# Altium schematic symbol library MIT_Schlib.SchLib: 44 symbols
Pins are listed as number, name and electrical type; pins without a type are passive.

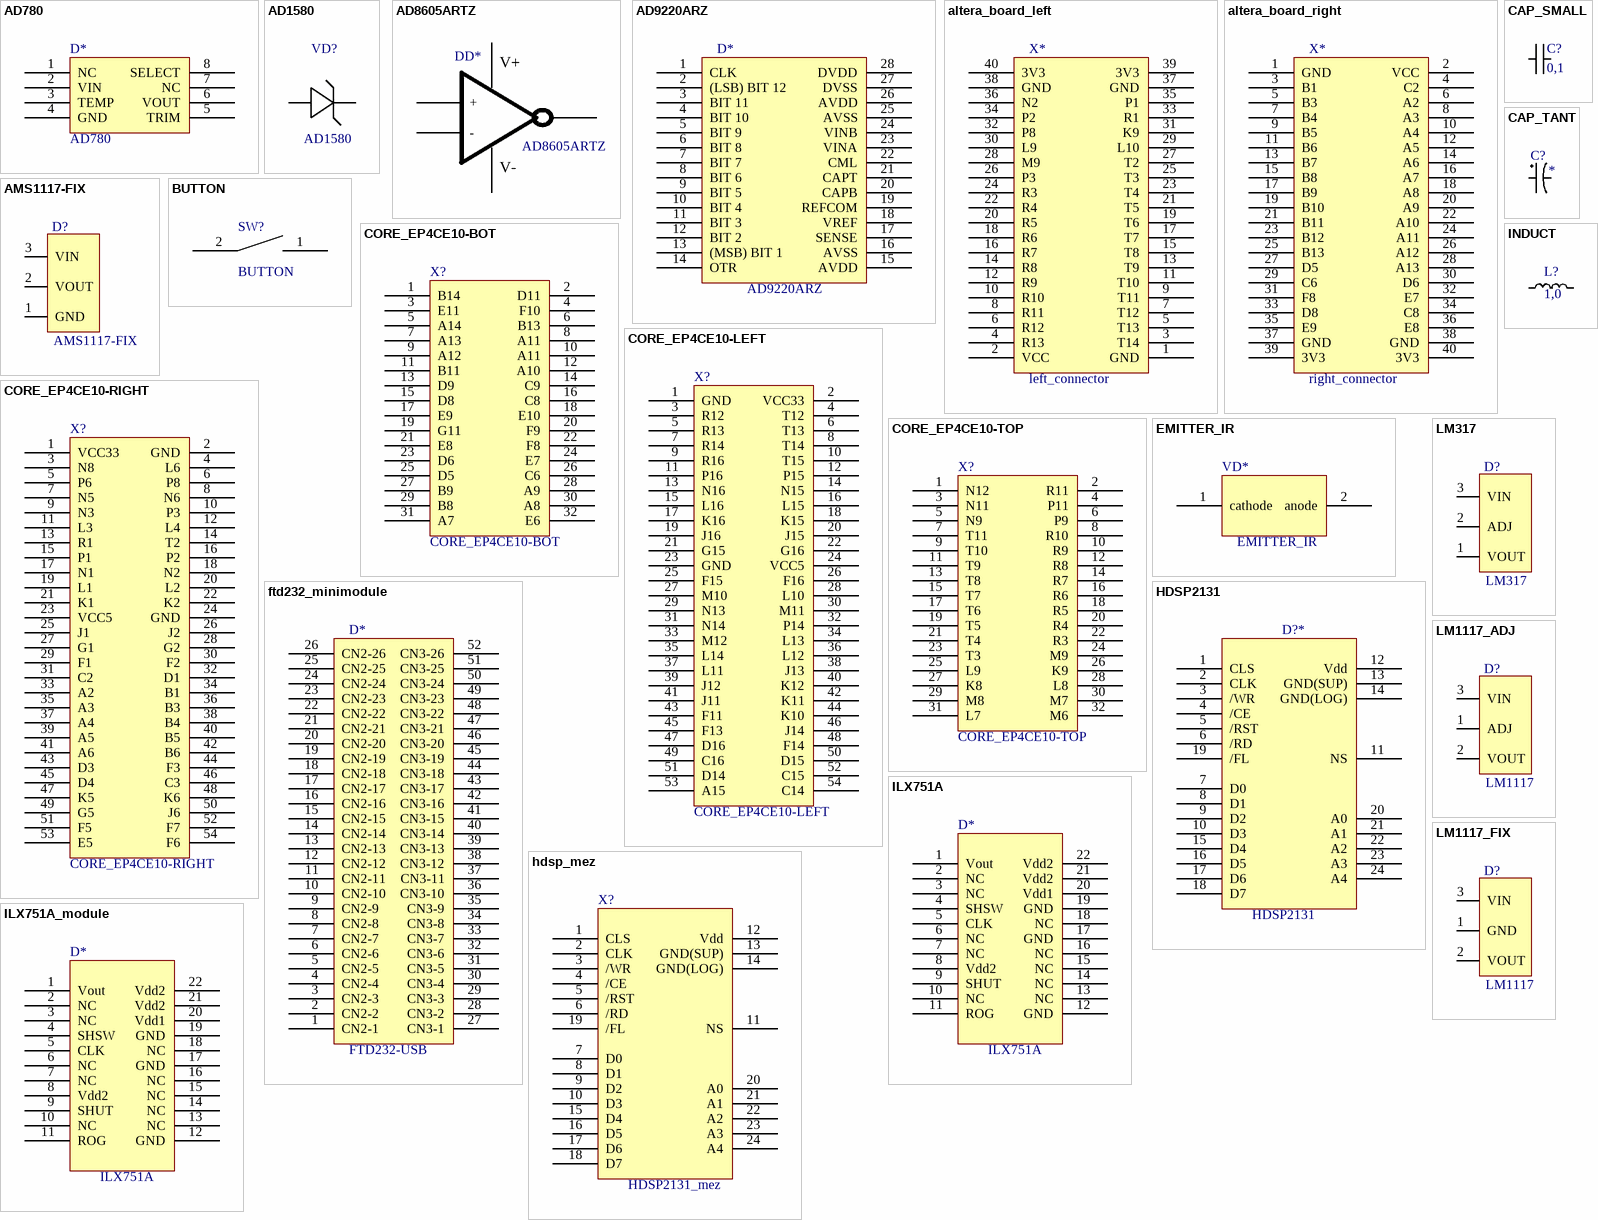
[diagram p0: symbols AD780 to LM1117_FIX]

## AD780
designator D*
footprint SOP8
pins: 1 NC, 2 VIN, 3 TEMP, 4 GND, 5 TRIM, 6 VOUT, 7 NC, 8 SELECT

## AD1580
designator VD?
footprint SOT-23
pins: 1 V+, 2 V-

## AD8605ARTZ
designator DD*
footprint SOT-23-5
pins: 1 OUT, 2 V-, 3 +, 4 -, 5 V+

## AD9220ARZ
designator D*
footprint SOP28
pins: 1 CLK, 2 (LSB) BIT 12 , 3 BIT 11, 4 BIT 10, 5 BIT 9, 6 BIT 8, 7 BIT 7, 8 BIT 6, 9 BIT 5, 10 BIT 4, 11 BIT 3, 12 BIT 2, 13 (MSB) BIT 1, 14 OTR, 15 AVDD, 16 AVSS, 17 SENSE, 18 VREF, 19 REFCOM, 20 CAPB, 21 CAPT, 22 CML, 23 VINA, 24 VINB, 25 AVSS, 26 AVDD, 27 DVSS, 28 DVDD

## altera_board_left
designator X*, comment left_connector
footprint altera_board_left
pins: 1 GND, 2 VCC, 3 T14, 4 R13, 5 T13, 6 R12, 7 T12, 8 R11, 9 T11, 10 R10, 11 T10, 12 R9, 13 T9, 14 R8, 15 T8, 16 R7, 17 T7, 18 R6, 19 T6, 20 R5, 21 T5, 22 R4, 23 T4, 24 R3, 25 T3, 26 P3, 27 T2, 28 M9, 29 L10, 30 L9, 31 K9, 32 P8, 33 R1, 34 P2, 35 P1, 36 N2, 37 GND, 38 GND, 39 3V3, 40 3V3

## altera_board_right
designator X*, comment right_connector
footprint altera_board_right
pins: 1 GND, 2 VCC, 3 B1, 4 C2, 5 B3, 6 A2, 7 B4, 8 A3, 9 B5, 10 A4, 11 B6, 12 A5, 13 B7, 14 A6, 15 B8, 16 A7, 17 B9, 18 A8, 19 B10, 20 A9, 21 B11, 22 A10, 23 B12, 24 A11, 25 B13, 26 A12, 27 D5, 28 A13, 29 C6, 30 D6, 31 F8, 32 E7, 33 D8, 34 C8, 35 E9, 36 E8, 37 GND, 38 GND, 39 3V3, 40 3V3

## AMS1117-FIX
designator D?
footprint SOT-223
pins: 1 GND, 2 VOUT, 3 VIN

## BUTTON
designator SW?
footprint BUTTON
pins: 1, 2

## CAP_SMALL
designator C?, comment 0,1
0805
footprint 0805
pins: 1, 2

## CAP_TANT
designator C?
SMD
footprint TYPE_C
pins: 1, 2

## CORE_EP4CE10-BOT
designator X?
footprint CORE_EP4CE10-BOT
pins: 1 B14, 2 D11, 3 E11, 4 F10, 5 A14, 6 B13, 7 A13, 8 A11, 9 A12, 10 A11, 11 B11, 12 A10, 13 D9, 14 C9, 15 D8, 16 C8, 17 E9, 18 E10, 19 G11, 20 F9, 21 E8, 22 F8, 23 D6, 24 E7, 25 D5, 26 C6, 27 B9, 28 A9, 29 B8, 30 A8, 31 A7, 32 E6

## CORE_EP4CE10-LEFT
designator X?
footprint CORE_EP4CE10-LEFT
pins: 1 GND, 2 VCC33, 3 R12, 4 T12, 5 R13, 6 T13, 7 R14, 8 T14, 9 R16, 10 T15, 11 P16, 12 P15, 13 N16, 14 N15, 15 L16, 16 L15, 17 K16, 18 K15, 19 J16, 20 J15, 21 G15, 22 G16, 23 GND, 24 VCC5, 25 F15, 26 F16, 27 M10, 28 L10, 29 N13, 30 M11, 31 N14, 32 P14, 33 M12, 34 L13, 35 L14, 36 L12, 37 L11, 38 J13, 39 J12, 40 K12, 41 J11, 42 K11, 43 F11, 44 K10, 45 F13, 46 J14, 47 D16, 48 F14, 49 C16, 50 D15, 51 D14, 52 C15, 53 A15, 54 C14

## CORE_EP4CE10-RIGHT
designator X?
footprint CORE_EP4CE10-RIGHT
pins: 1 VCC33, 2 GND, 3 N8, 4 L6, 5 P6, 6 P8, 7 N5, 8 N6, 9 N3, 10 P3, 11 L3, 12 L4, 13 R1, 14 T2, 15 P1, 16 P2, 17 N1, 18 N2, 19 L1, 20 L2, 21 K1, 22 K2, 23 VCC5, 24 GND, 25 J1, 26 J2, 27 G1, 28 G2, 29 F1, 30 F2, 31 C2, 32 D1, 33 A2, 34 B1, 35 A3, 36 B3, 37 A4, 38 B4, 39 A5, 40 B5, 41 A6, 42 B6, 43 D3, 44 F3, 45 D4, 46 C3, 47 K5, 48 K6, 49 G5, 50 J6, 51 F5, 52 F7, 53 E5, 54 F6

## CORE_EP4CE10-TOP
designator X?
footprint CORE_EP4CE10-TOP
pins: 1 N12, 2 R11, 3 N11, 4 P11, 5 N9, 6 P9, 7 T11, 8 R10, 9 T10, 10 R9, 11 T9, 12 R8, 13 T8, 14 R7, 15 T7, 16 R6, 17 T6, 18 R5, 19 T5, 20 R4, 21 T4, 22 R3, 23 T3, 24 M9, 25 L9, 26 K9, 27 K8, 28 L8, 29 M8, 30 M7, 31 L7, 32 M6

## EMITTER_IR
designator VD*
footprint EMITTER_IR
pins: 1 cathode, 2 anode

## ftd232_minimodule
designator D*, comment FTD232-USB
footprint ftd232_minimodule
pins: 1 CN2-1, 2 CN2-2, 3 CN2-3, 4 CN2-4, 5 CN2-5, 6 CN2-6, 7 CN2-7, 8 CN2-8, 9 CN2-9, 10 CN2-10, 11 CN2-11, 12 CN2-12, 13 CN2-13, 14 CN2-14, 15 CN2-15, 16 CN2-16, 17 CN2-17, 18 CN2-18, 19 CN2-19, 20 CN2-20, 21 CN2-21, 22 CN2-22, 23 CN2-23, 24 CN2-24, 25 CN2-25, 26 CN2-26, 27 CN3-1, 28 CN3-2, 29 CN3-3, 30 CN3-4, 31 CN3-5, 32 CN3-6, 33 CN3-7, 34 CN3-8, 35 CN3-9, 36 CN3-10, 37 CN3-11, 38 CN3-12, 39 CN3-13, 40 CN3-14, 41 CN3-15, 42 CN3-16, 43 CN3-17, 44 CN3-18, 45 CN3-19, 46 CN3-20, 47 CN3-21, 48 CN3-22, 49 CN3-23, 50 CN3-24, 51 CN3-25, 52 CN3-26

## HDSP2131
designator D?*
footprint HDSP2131
pins: 1 CLS, 2 CLK, 3 /WR, 4 /CE, 5 /RST, 6 /RD, 7 D0, 8 D1, 9 D2, 10 D3, 11 NS, 12 Vdd, 13 GND(SUP), 14 GND(LOG), 15 D4, 16 D5, 17 D6, 18 D7, 19 /FL, 20 A0, 21 A1, 22 A2, 23 A3, 24 A4

## hdsp_mez
designator X?, comment HDSP2131_mez
footprint hdsp2131_mez
pins: 1 CLS, 2 CLK, 3 /WR, 4 /CE, 5 /RST, 6 /RD, 7 D0, 8 D1, 9 D2, 10 D3, 11 NS, 12 Vdd, 13 GND(SUP), 14 GND(LOG), 15 D4, 16 D5, 17 D6, 18 D7, 19 /FL, 20 A0, 21 A1, 22 A2, 23 A3, 24 A4

## ILX751A
designator D*
footprint ILX751A
pins: 1 Vout, 2 NC, 3 NC, 4 SHSW, 5 CLK, 6 NC, 7 NC, 8 Vdd2, 9 SHUT, 10 NC, 11 ROG, 12 GND, 13 NC, 14 NC, 15 NC, 16 NC, 17 GND, 18 NC, 19 GND, 20 Vdd1, 21 Vdd2, 22 Vdd2

## ILX751A_module
designator D*, comment ILX751A
footprint ILX751A - Module
pins: 1 Vout, 2 NC, 3 NC, 4 SHSW, 5 CLK, 6 NC, 7 NC, 8 Vdd2, 9 SHUT, 10 NC, 11 ROG, 12 GND, 13 NC, 14 NC, 15 NC, 16 NC, 17 GND, 18 NC, 19 GND, 20 Vdd1, 21 Vdd2, 22 Vdd2

## INDUCT
designator L?, comment 1,0
0805
footprint 0805
pins: 1, 2

## LM317
designator D?
footprint D2PACK
pins: 1 VOUT, 2 ADJ, 3 VIN

## LM1117_ADJ
designator D?, comment LM1117
footprint TO-252
pins: 1 ADJ, 2 VOUT, 3 VIN

## LM1117_FIX
designator D?, comment LM1117
LM1117-FIX
footprint TO-252
pins: 1 GND, 2 VOUT, 3 VIN

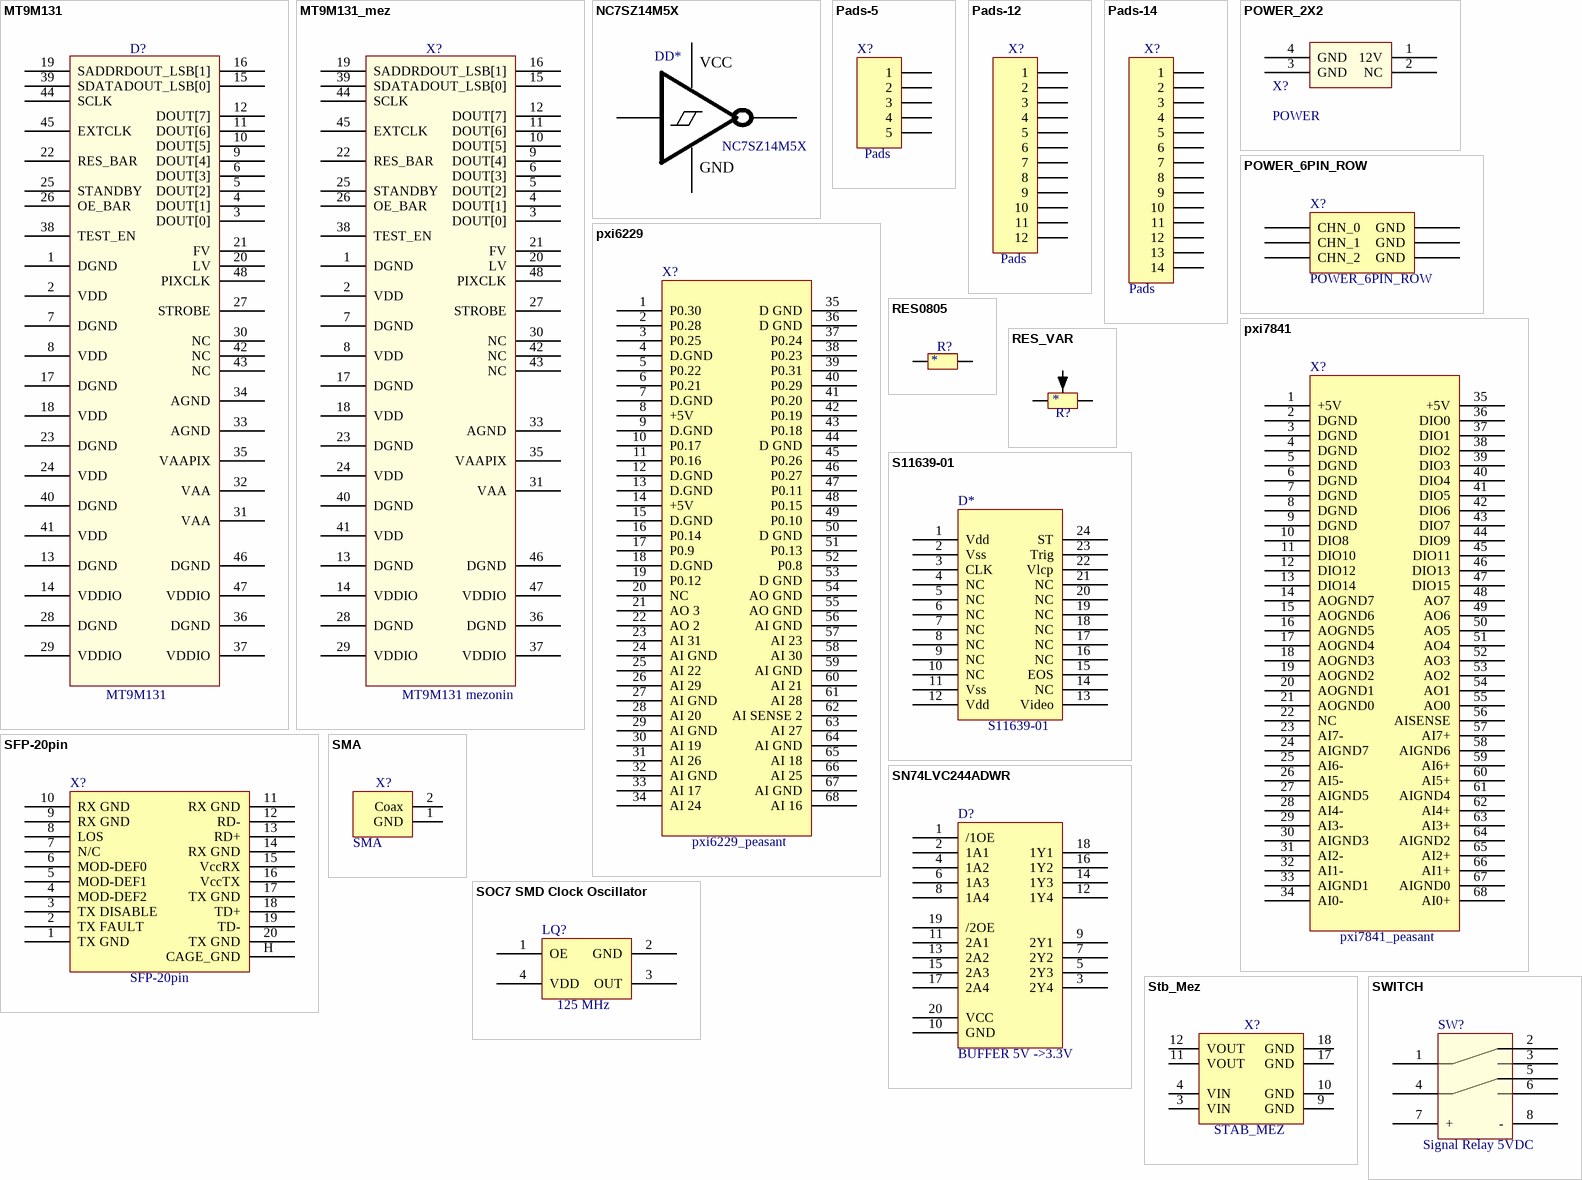
[diagram p1: symbols MT9M131 to SWITCH]

## MT9M131
designator D?
Matrix
footprint LCC48
pins: 1 DGND, 2 VDD, 3 DOUT[0], 4 DOUT[1], 5 DOUT[2], 6 DOUT[3], 7 DGND, 8 VDD, 9 DOUT[4], 10 DOUT[5], 11 DOUT[6], 12 DOUT[7], 13 DGND, 14 VDDIO, 15 DOUT_LSB[0], 16 DOUT_LSB[1], 17 DGND, 18 VDD, 19 SADDR, 20 LV, 21 FV, 22 RES_BAR, 23 DGND, 24 VDD, 25 STANDBY, 26 OE_BAR, 27 STROBE, 28 DGND, 29 VDDIO, 30 NC, 31 VAA, 32 VAA, 33 AGND, 34 AGND, 35 VAAPIX, 36 DGND, 37 VDDIO, 38 TEST_EN, 39 SDATA, 40 DGND, 41 VDD, 42 NC, 43 NC, 44 SCLK, 45 EXTCLK, 46 DGND, 47 VDDIO, 48 PIXCLK

## MT9M131_mez
designator X?, comment MT9M131 mezonin
Matrix
footprint MT9M131_mez
pins: 1 DGND, 2 VDD, 3 DOUT[0], 4 DOUT[1], 5 DOUT[2], 6 DOUT[3], 7 DGND, 8 VDD, 9 DOUT[4], 10 DOUT[5], 11 DOUT[6], 12 DOUT[7], 13 DGND, 14 VDDIO, 15 DOUT_LSB[0], 16 DOUT_LSB[1], 17 DGND, 18 VDD, 19 SADDR, 20 LV, 21 FV, 22 RES_BAR, 23 DGND, 24 VDD, 25 STANDBY, 26 OE_BAR, 27 STROBE, 28 DGND, 29 VDDIO, 30 NC, 31 VAA, 33 AGND, 35 VAAPIX, 36 DGND, 37 VDDIO, 38 TEST_EN, 39 SDATA, 40 DGND, 41 VDD, 42 NC, 43 NC, 44 SCLK, 45 EXTCLK, 46 DGND, 47 VDDIO, 48 PIXCLK

## NC7SZ14M5X
designator DD*
footprint SOT-23-5
pins: 2 A_IN, 3 GND, 4 Y_OUT, 5 VCC

## Pads-5
designator X?, comment Pads
footprint Pads-5
pins: 1, 2, 3, 4, 5

## Pads-12
designator X?, comment Pads
footprint Pads-12
pins: 1, 2, 3, 4, 5, 6, 7, 8, 9, 10, 11, 12

## Pads-14
designator X?, comment Pads
footprint Pads-14
pins: 1, 2, 3, 4, 5, 6, 7, 8, 9, 10, 11, 12, 13, 14

## POWER_2X2
designator X?, comment POWER
footprint POWER-2X2 (POWER)
pins: 1 12V, 2  NC, 3 GND, 4 GND

## POWER_6PIN_ROW
designator X?
footprint POWER_6PIN_ROW
pins: 1 CHN_0, 2 GND, 3 CHN_1, 4 GND, 5 GND, 6 CHN_2

## pxi6229
designator X?, comment pxi6229_peasant
footprint FPGA_Peasant_connector
pins: 1 P0.30, 2 P0.28, 3 P0.25, 4 D.GND, 5 P0.22, 6 P0.21, 7 D.GND, 8 +5V, 9 D.GND, 10 P0.17, 11 P0.16, 12 D.GND, 13 D.GND, 14 +5V, 15 D.GND, 16 P0.14, 17 P0.9, 18 D.GND, 19 P0.12, 20 NC, 21 AO 3, 22 AO 2, 23 AI 31, 24 AI GND, 25 AI 22, 26 AI 29, 27 AI GND, 28 AI 20, 29 AI GND, 30 AI 19, 31 AI 26, 32 AI GND, 33 AI 17, 34 AI 24, 35 D GND, 36 D GND, 37 P0.24, 38 P0.23, 39 P0.31, 40 P0.29, 41 P0.20, 42 P0.19, 43 P0.18, 44 D GND, 45 P0.26, 46 P0.27, 47 P0.11, 48 P0.15, 49 P0.10, 50 D GND, 51 P0.13, 52 P0.8, 53 D GND, 54 AO GND, 55 AO GND, 56 AI GND, 57 AI 23, 58 AI 30, 59 AI GND, 60 AI 21, 61 AI 28, 62 AI SENSE 2, 63 AI 27, 64 AI GND, 65 AI 18, 66 AI 25, 67 AI GND, 68 AI 16

## pxi7841
designator X?, comment pxi7841_peasant
footprint FPGA_Peasant_connector
pins: 1 +5V, 2 DGND, 3 DGND, 4 DGND, 5 DGND, 6 DGND, 7 DGND, 8 DGND, 9 DGND, 10 DIO8, 11 DIO10, 12 DIO12, 13 DIO14, 14 AOGND7, 15 AOGND6, 16 AOGND5, 17 AOGND4, 18 AOGND3, 19 AOGND2, 20 AOGND1, 21 AOGND0, 22 NC, 23 AI7-, 24 AIGND7, 25 AI6-, 26 AI5-, 27 AIGND5, 28 AI4-, 29 AI3-, 30 AIGND3, 31 AI2-, 32 AI1-, 33 AIGND1, 34 AI0-, 35 +5V, 36 DIO0, 37 DIO1, 38 DIO2, 39 DIO3, 40 DIO4, 41 DIO5, 42 DIO6, 43 DIO7, 44 DIO9, 45 DIO11, 46 DIO13, 47 DIO15, 48 AO7, 49 AO6, 50 AO5, 51 AO4, 52 AO3, 53 AO2, 54 AO1, 55 AO0, 56 AISENSE, 57 AI7+, 58 AIGND6, 59 AI6+, 60 AI5+, 61 AIGND4, 62 AI4+, 63 AI3+, 64 AIGND2, 65 AI2+, 66 AI1+, 67 AIGND0, 68 AI0+

## RES0805
designator R?
0805
footprint 0805
pins: 1, 2

## RES_VAR
designator R?
PV36W102C (СП5-2ВБ) 1 кОм
footprint 3006P
pins: 1, 2, 3

## S11639-01
designator D*
footprint s11639-01 (CMOS linear image sensor)
pins: 1 Vdd, 2 Vss, 3 CLK, 4 NC, 5 NC, 6 NC, 7 NC, 8 NC, 9 NC, 10 NC, 11 Vss, 12 Vdd, 13 Video, 14 NC, 15 EOS, 16 NC, 17 NC, 18 NC, 19 NC, 20 NC, 21 NC, 22 Vlcp, 23 Trig, 24 ST

## SFP-20pin
designator X?
footprint SFP-20pin
pins: 1 TX GND, 2 TX FAULT, 3 TX DISABLE, 4 MOD-DEF2, 5 MOD-DEF1, 6 MOD-DEF0, 7 N/C, 8 LOS, 9 RX GND, 10 RX GND, 11 RX GND, 12 RD-, 13 RD+, 14 RX GND, 15 VccRX, 16 VccTX, 17 TX GND, 18 TD+, 19 TD-, 20 TX GND, H CAGE_GND

## SMA
designator X?
footprint SMA
pins: 1 GND, 2 Coax

## SN74LVC244ADWR
designator D?, comment BUFFER 5V ->3.3V
footprint SN74LVC244ADWR
pins: 1 /1OE, 2 1A1, 3 2Y4, 4 1A2, 5 2Y3, 6 1A3, 7 2Y2, 8 1A4, 9 2Y1, 10 GND, 11 2A1, 12 1Y4, 13 2A2, 14 1Y3, 15 2A3, 16 1Y2, 17 2A4, 18 1Y1, 19 /2OE, 20 VCC

## SOC7 SMD Clock Oscillator
designator LQ?, comment 125 MHz
footprint SOC7 SMD Clock Oscillator
pins: 1 OE, 2 GND, 3 OUT, 4 VDD

## Stb_Mez
designator X?, comment STAB_MEZ
footprint STAB_Mez
pins: 3 VIN, 4 VIN, 9 GND, 10 GND, 11 VOUT, 12 VOUT, 17 GND, 18 GND

## SWITCH
designator SW?, comment Signal Relay 5VDC
footprint V23079 Relay
pins: 1 -, 2 -, 3 -, 4 -, 5 -, 6 -, 7 +, 8 -

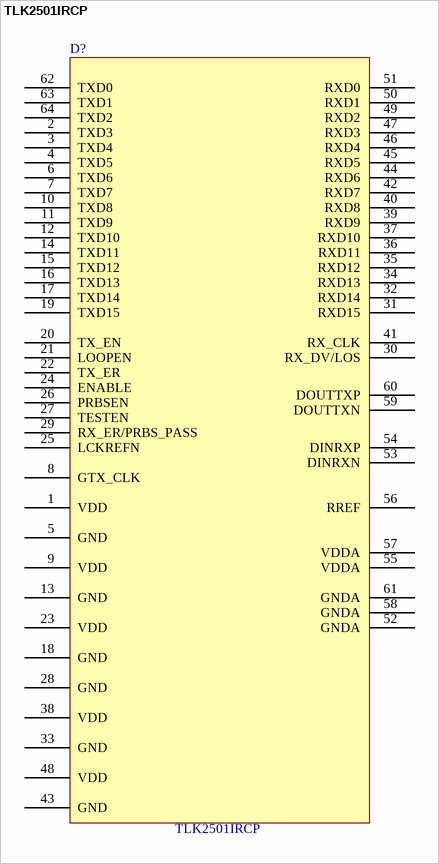
[diagram p2: symbol TLK2501IRCP]

## TLK2501IRCP
designator D?
footprint Quad64
pins: 1 VDD, 2 TXD3, 3 TXD4, 4 TXD5, 5 GND, 6 TXD6, 7 TXD7, 8 GTX_CLK, 9 VDD, 10 TXD8, 11 TXD9, 12 TXD10, 13 GND, 14 TXD11, 15 TXD12, 16 TXD13, 17 TXD14, 18 GND, 19 TXD15, 20 TX_EN, 21 LOOPEN, 22 TX_ER, 23 VDD, 24 ENABLE, 25 LCKREFN, 26 PRBSEN, 27 TESTEN, 28 GND, 29 RX_ER/PRBS_PASS, 30 RX_DV/LOS, 31 RXD15, 32 RXD14, 33 GND, 34 RXD13, 35 RXD12, 36 RXD11, 37 RXD10, 38 VDD, 39 RXD9, 40 RXD8, 41 RX_CLK, 42 RXD7, 43 GND, 44 RXD6, 45 RXD5, 46 RXD4, 47 RXD3, 48 VDD, 49 RXD2, 50 RXD1, 51 RXD0, 52 GNDA, 53 DINRXN, 54 DINRXP, 55 VDDA, 56 RREF, 57 VDDA, 58 GNDA, 59 DOUTTXN, 60 DOUTTXP, 61 GNDA, 62 TXD0, 63 TXD1, 64 TXD2